# Altium schematic symbol library diodes.SchLib: 7 symbols
Pins are listed as number, name and electrical type; pins without a type are passive.

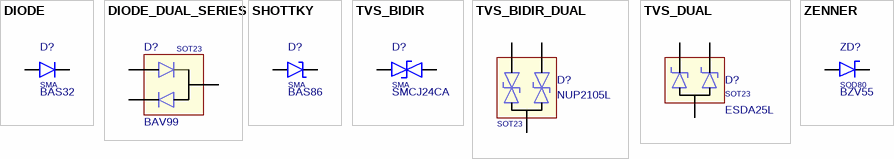
[diagram p0: symbols DIODE to ZENNER]

## DIODE
designator D?  value BAS32  PackageReference: SMA  (hidden comment: *)
General diode
footprint SMA (Footprint not found)
footprint SMB (Footprint not found)
footprint SMC (Footprint not found)
footprint SOD-27 (Footprint not found)
footprint SOD-66 (Footprint not found)
footprint SOD-68 (Footprint not found)
footprint SOD-80C (Footprint not found)
footprint SOD-123 (Footprint not found)
footprint SOD-323 (Footprint not found)
footprint SOD-523-2 (SODFL, 2-Leads, Body 1.20x0.80x0.60mm, IPC Medium Density)
pins: 1 K, 2 A

## DIODE_DUAL_SERIES
designator D?, comment value BAV99  PackageReference: SOT23  (hidden comment: DUAL1)
DUAL SERIES
footprint SOT-23-3
pins: 1 A, 2 K, 3 A+K

## SHOTTKY
designator D?  value BAS86  PackageReference: SMA  (hidden comment: *)
SHOTTKY
footprint SOD-80C
footprint SOD-123
footprint SOD-323
footprint SOD-523-2 (SODFL, 2-Leads, Body 1.20x0.80x0.60mm, IPC Medium Density)
footprint DO-214AC (SMA) (Molded Diode, 2-Leads, Body 4,30x2,59mm, IPC Medium Density)
footprint DO-214AA (SMB) (Molded Diode, 2-Leads, Body 4,31x3,62mm, IPC Medium Density)
pins: 1 K, 2 A

## TVS_BIDIR
designator D?, comment PackageReference: SMA  (hidden comment: SMCJ24CA)
TVS Diodes; Value: SMCJ24CA
footprint DO-34
footprint DO-201
footprint DO-201-V
footprint DO-214AC (SMA) (Molded Diode, 2-Leads, Body 4,30x2,59mm, IPC Medium Density)
footprint DO-214AA (SMB) (Molded Diode, 2-Leads, Body 4,31x3,62mm, IPC Medium Density)
pins: 1, 2

## TVS_BIDIR_DUAL
designator D?, comment value NUP2105L  PackageReference: SOT23  (hidden comment: PESD)
TVS Diodes
footprint SOT-23-3
pins: 1 A, 2 B, 3 C

## TVS_DUAL
designator D?, comment value ESDA25L  PackageReference: SOT23  (hidden comment: PESD)
TVS Diodes
footprint SOT-23-3
pins: 1 A, 2 B, 3 C

## ZENNER
designator ZD?  value BZV55  PackageReference: SOD80  (hidden comment: *)
Zenner diode
footprint SOD-80C
footprint SOD-123
footprint SOD-323
pins: 1 K, 2 A